# Altium schematic symbol library 控制板原理图库.SchLib: 2 symbols
Pins are listed as number, name and electrical type; pins without a type are passive.

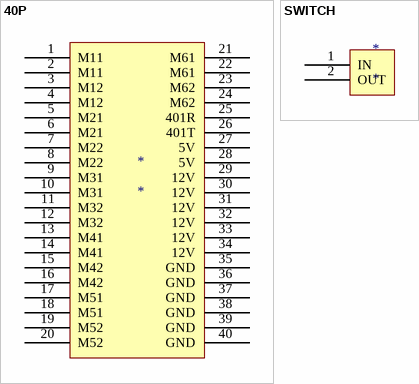
[diagram p0: symbols 40P to SWITCH]

## 40P
designator *
footprint PCBComponent_1
pins: 1 M11, 2 M11, 3 M12, 4 M12, 5 M21, 6 M21, 7 M22, 8 M22, 9 M31, 10 M31, 11 M32, 12 M32, 13 M41, 14 M41, 15 M42, 16 M42, 17 M51, 18 M51, 19 M52, 20 M52, 21 M61, 22 M61, 23 M62, 24 M62, 25 401R, 26 401T, 27 5V, 28 5V, 29 12V, 30 12V, 31 12V, 32 12V, 33 12V, 34 12V, 35 GND, 36 GND, 37 GND, 38 GND, 39 GND, 40 GND

## SWITCH
designator *
footprint switch
pins: 1 IN, 2 OUT